# EAGLE library part AS-ITM-00151 (library tinycircuits)
CONN HEADER 10POS .100 STR 15AU
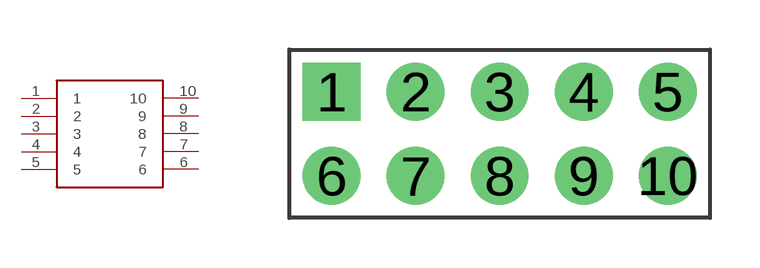
[diagram p68: symbol with the pads of 2X5_.1"_HEADER_M; footprint 2X5_.1"_HEADER_M]

Designator prefix -

## AS-ITM-00151 (PARTNO: AS-ITM-00151; VALUE: 67997-210HLF)  [2X5_.1"_HEADER_M]
1  1
2  2
3  3
4  4
5  5
6  6
7  7
8  8
9  9
10  10

## Footprint 2X5_.1"_HEADER_M (pad centres in mm)
drill 1 pad 1.75 square: 1 -5.08,1.27
drill 1 pad 1.75: 2 -2.54,1.27; 3 0,1.27; 4 2.54,1.27; 5 5.08,1.27; 6 -5.08,-1.27; 7 -2.54,-1.27; 8 0,-1.27; 9 2.54,-1.27; 10 5.08,-1.27